# Altium schematic symbol library SPC56EL70L5.SchLib: 1 symbol
Pins are listed as number, name and electrical type; pins without a type are passive.

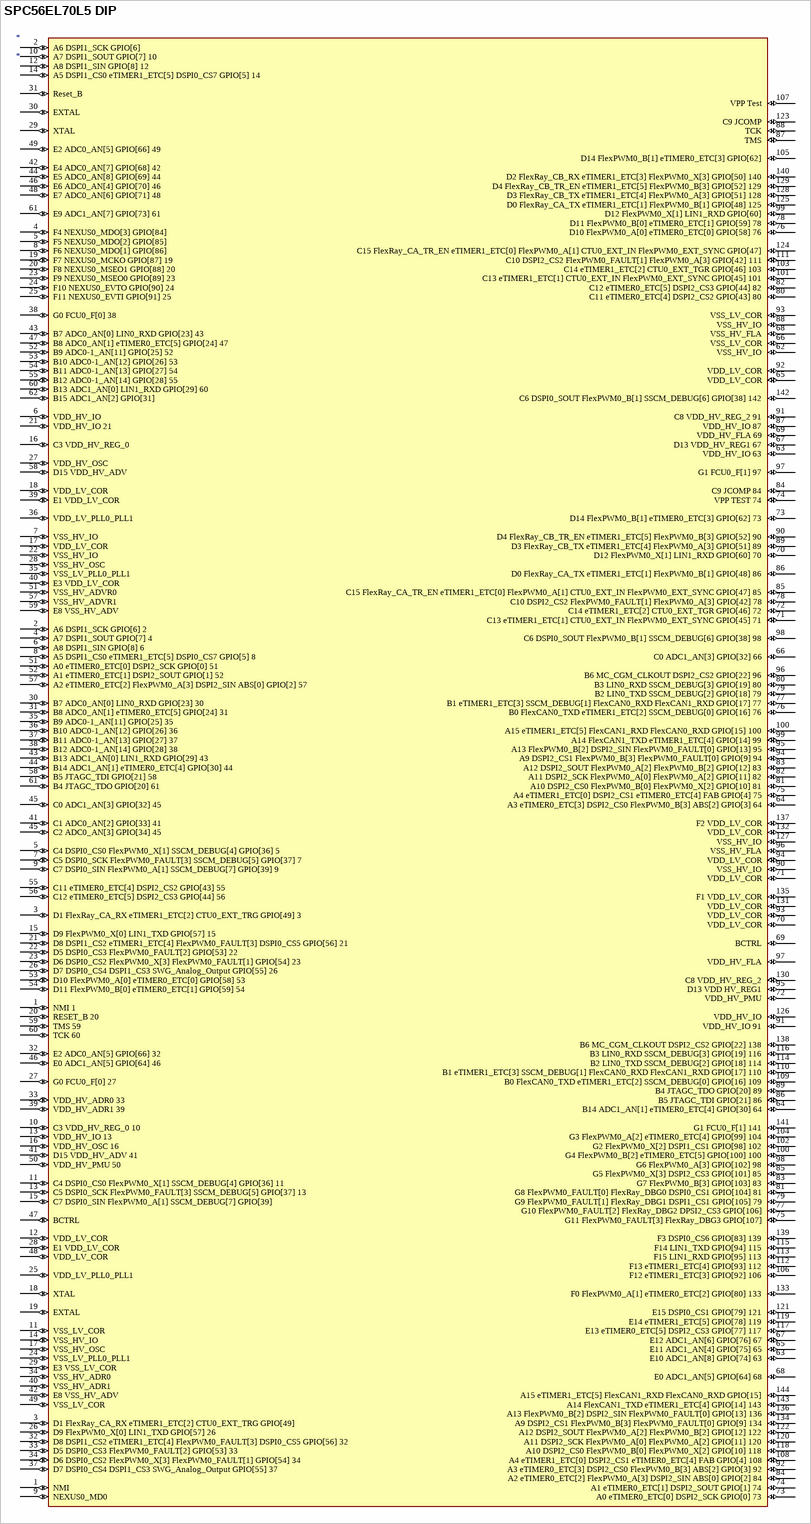
[diagram p0: symbol SPC56EL70L5 DIP]

## SPC56EL70L5 DIP
designator *
footprint CQFP50P2200X2200X160-144N (CQFP, 144-Leads, Body 22.00x22.00mm, Pitch 0.50mm, IPC Medium Density)
pins: 1 NMI (io), 1 NMI 1 (io), 2 A6 DSPI1_SCK GPIO[6] (io), 2 A6 DSPI1_SCK GPIO[6] 2 (io), 3 D1 FlexRay_CA_RX eTIMER1_ETC[2] CTU0_EXT_TRG GPIO[49] (io), 3 D1 FlexRay_CA_RX eTIMER1_ETC[2] CTU0_EXT_TRG GPIO[49] 3 (io), 4 F4 NEXUS0_MDO[3] GPIO[84] (io), 4 A7 DSPI1_SOUT GPIO[7] 4 (io), 5 F5 NEXUS0_MDO[2] GPIO[85] (io), 5 C4 DSPI0_CS0 FlexPWM0_X[1] SSCM_DEBUG[4] GPIO[36] 5 (io), 6 VDD_HV_IO (io), 6 A8 DSPI1_SIN GPIO[8] 6 (io), 7 VSS_HV_IO (io), 7 C5 DSPI0_SCK FlexPWM0_FAULT[3] SSCM_DEBUG[5] GPIO[37] 7 (io), 8 F6 NEXUS0_MDO[1] GPIO[86] (io), 8 A5 DSPI1_CS0 eTIMER1_ETC[5] DSPI0_CS7 GPIO[5] 8 (io), 9 NEXUS0_MD0 (io), 9 C7 DSPI0_SIN FlexPWM0_A[1] SSCM_DEBUG[7] GPIO[39] 9 (io), 10 A7 DSPI1_SOUT GPIO[7] 10 (io), 10 C3 VDD_HV_REG_0 10 (io), 11 C4 DSPI0_CS0 FlexPWM0_X[1] SSCM_DEBUG[4] GPIO[36] 11 (io), 11 VSS_LV_COR (io), 12 A8 DSPI1_SIN GPIO[8] 12 (io), 12 VDD_LV_COR (io), 13 C5 DSPI0_SCK FlexPWM0_FAULT[3] SSCM_DEBUG[5] GPIO[37] 13 (io), 13 VDD_HV_IO 13 (io), 14 A5 DSPI1_CS0 eTIMER1_ETC[5] DSPI0_CS7 GPIO[5] 14 (io), 14 VSS_HV_IO (io), 15 C7 DSPI0_SIN FlexPWM0_A[1] SSCM_DEBUG[7] GPIO[39] (io), 15 D9 FlexPWM0_X[0] LIN1_TXD GPIO[57] 15 (io), 16 C3 VDD_HV_REG_0 (io), 16 VDD_HV_OSC 16 (io), 17 VDD_LV_COR (io), 17 VSS_HV_OSC (io), 18 VDD_LV_COR (io), 18 XTAL (io), 19 F7 NEXUS0_MCKO GPIO[87] 19 (io), 19 EXTAL (io), 20 F8 NEXUS0_MSEO1 GPIO[88] 20 (io), 20 RESET_B 20 (io), 21 VDD_HV_IO 21 (io), 21 D8 DSPI1_CS2 eTIMER1_ETC[4] FlexPWM0_FAULT[3] DSPI0_CS5 GPIO[56] 21 (io), 22 VSS_HV_IO (io), 22 D5 DSPI0_CS3 FlexPWM0_FAULT[2] GPIO[53] 22 (io), 23 F9 NEXUS0_MSEO0 GPIO[89] 23 (io), 23 D6 DSPI0_CS2 FlexPWM0_X[3] FlexPWM0_FAULT[1] GPIO[54] 23 (io), 24 F10 NEXUS0_EVTO GPIO[90] 24 (io), 24 VSS_LV_PLL0_PLL1 (io), 25 F11 NEXUS0_EVTI GPIO[91] 25 (io), 25 VDD_LV_PLL0_PLL1 (io), 26 D9 FlexPWM0_X[0] LIN1_TXD GPIO[57] 26 (io), 26 D7 DSPI0_CS4 DSPI1_CS3 SWG_Analog_Output GPIO[55] 26 (io), 27 VDD_HV_OSC (io), 27 G0 FCU0_F[0] 27 (io), 28 VSS_HV_OSC (io), 28 E1 VDD_LV_COR (io), 29 XTAL (io), 29 E3 VSS_LV_COR (io), 30 EXTAL (io), 30 B7 ADC0_AN[0] LIN0_RXD GPIO[23] 30 (io), 31 Reset_B (io), 31 B8 ADC0_AN[1] eTIMER0_ETC[5] GPIO[24] 31 (io), 32 D8 DSPI1_CS2 eTIMER1_ETC[4] FlexPWM0_FAULT[3] DSPI0_CS5 GPIO[56] 32 (io), 32 E2 ADC0_AN[5] GPIO[66] 32 (io), 33 D5 DSPI0_CS3 FlexPWM0_FAULT[2] GPIO[53] 33 (io), 33 VDD_HV_ADR0 33 (io), 34 D6 DSPI0_CS2 FlexPWM0_X[3] FlexPWM0_FAULT[1] GPIO[54] 34 (io), 34 VSS_HV_ADR0 (io), 35 VSS_LV_PLL0_PLL1 (io), 35 B9 ADC0-1_AN[11] GPIO[25] 35 (io), 36 VDD_LV_PLL0_PLL1 (io), 36 B10 ADC0-1_AN[12] GPIO[26] 36 (io), 37 D7 DSPI0_CS4 DSPI1_CS3 SWG_Analog_Output GPIO[55] 37 (io), 37 B11 ADC0-1_AN[13] GPIO[27] 37 (io), 38 G0 FCU0_F[0] 38 (io), 38 B12 ADC0-1_AN[14] GPIO[28] 38 (io), 39 E1 VDD_LV_COR (io), 39 VDD_HV_ADR1 39 (io), 40 E3 VDD_LV_COR (io), 40 VSS_HV_ADR1 (io), 41 C1 ADC0_AN[2] GPIO[33] 41 (io), 41 D15 VDD_HV_ADV 41 (io), 42 E4 ADC0_AN[7] GPIO[68] 42 (io), 42 E8 VSS_HV_ADV (io), 43 B7 ADC0_AN[0] LIN0_RXD GPIO[23] 43 (io), 43 B13 ADC1_AN[0] LIN1_RXD GPIO[29] 43 (io), 44 E5 ADC0_AN[8] GPIO[69] 44 (io), 44 B14 ADC1_AN[1] eTIMER0_ETC[4] GPIO[30] 44 (io), 45 C2 ADC0_AN[3] GPIO[34] 45 (io), 45 C0 ADC1_AN[3] GPIO[32] 45 (io), 46 E6 ADC0_AN[4] GPIO[70] 46 (io), 46 E0 ADC1_AN[5] GPIO[64] 46 (io), 47 B8 ADC0_AN[1] eTIMER0_ETC[5] GPIO[24] 47 (io), 47 BCTRL (io), 48 E7 ADC0_AN[6] GPIO[71] 48 (io), 48 VDD_LV_COR (io), 49 E2 ADC0_AN[5] GPIO[66] 49 (io), 49 VSS_LV_COR (io), 50 VDD_HV_PMU 50 (io), 51 VSS_HV_ADVR0 (io), 51 A0 eTIMER0_ETC[0] DSPI2_SCK GPIO[0] 51 (io), 52 B9 ADC0-1_AN[11] GPIO[25] 52 (io), 52 A1 eTIMER0_ETC[1] DSPI2_SOUT GPIO[1] 52 (io), 53 B10 ADC0-1_AN[12] GPIO[26] 53 (io), 53 D10 FlexPWM0_A[0] eTIMER0_ETC[0] GPIO[58] 53 (io), 54 B11 ADC0-1_AN[13] GPIO[27] 54 (io), 54 D11 FlexPWM0_B[0] eTIMER0_ETC[1] GPIO[59] 54 (io), 55 B12 ADC0-1_AN[14] GPIO[28] 55 (io), 55 C11 eTIMER0_ETC[4] DSPI2_CS2 GPIO[43] 55 (io), 56 C12 eTIMER0_ETC[5] DSPI2_CS3 GPIO[44] 56 (io), 57 VSS_HV_ADVR1 (io), 57 A2 eTIMER0_ETC[2] FlexPWM0_A[3] DSPI2_SIN ABS[0] GPIO[2] 57 (io), 58 D15 VDD_HV_ADV (io), 58 B5 JTAGC_TDI GPIO[21] 58 (io), 59 E8 VSS_HV_ADV (io), 59 TMS 59 (io), 60 B13 ADC1_AN[0] LIN1_RXD GPIO[29] 60 (io), 60 TCK 60 (io), 61 E9 ADC1_AN[7] GPIO[73] 61 (io), 61 B4 JTAGC_TDO GPIO[20] 61 (io), 62 B15 ADC1_AN[2] GPIO[31] (io), 62 VSS_HV_IO (io), 63 E10 ADC1_AN[8] GPIO[74] 63 (io), 63 VDD_HV_IO 63 (io), 64 B14 ADC1_AN[1] eTIMER0_ETC[4] GPIO[30] 64 (io), 64 A3 eTIMER0_ETC[3] DSPI2_CS0 FlexPWM0_B[3] ABS[2] GPIO[3] 64 (io), 65 E11 ADC1_AN[4] GPIO[75] 65 (io), 65 VDD_LV_COR (io), 66 C0 ADC1_AN[3] GPIO[32] 66 (io), 66 VSS_LV_COR (io), 67 E12 ADC1_AN[6] GPIO[76] 67 (io), 67 D13 VDD_HV_REG1 67 (io), 68 E0 ADC1_AN[5] GPIO[64] 68 (io), 68 VSS_HV_FLA (io), 69 BCTRL (io), 69 VDD_HV_FLA 69 (io), 70 VDD_LV_COR (io), 70 D12 FlexPWM0_X[1] LIN1_RXD GPIO[60] 70 (io), 71 VDD_LV_COR (io), 71 C13 eTIMER1_ETC[1] CTU0_EXT_IN FlexPWM0_EXT_SYNC GPIO[45] 71 (io), 72 VDD_HV_PMU (io), 72 C14 eTIMER1_ETC[2] CTU0_EXT_TGR GPIO[46] 72 (io), 73 A0 eTIMER0_ETC[0] DSPI2_SCK GPIO[0] 73 (io), 73 D14 FlexPWM0_B[1] eTIMER0_ETC[3] GPIO[62] 73 (io), 74 A1 eTIMER0_ETC[1] DSPI2_SOUT GPIO[1] 74 (io), 74 VPP TEST 74 (io), 75 G11 FlexPWM0_FAULT[3] FlexRay_DBG3 GPIO[107] (io), 75 A4 eTIMER1_ETC[0] DSPI2_CS1 eTIMER0_ETC[4] FAB GPIO[4] 75 (io), 76 D10 FlexPWM0_A[0] eTIMER0_ETC[0] GPIO[58] 76 (io), 76 B0 FlexCAN0_TXD eTIMER1_ETC[2] SSCM_DEBUG[0] GPIO[16] 76 (io), 77 G10 FlexPWM0_FAULT[2] FlexRay_DBG2 DPSI2_CS3 GPIO[106] (io), 77 B1 eTIMER1_ETC[3] SSCM_DEBUG[1] FlexCAN0_RXD FlexCAN1_RXD GPIO[17] 77 (io), 78 D11 FlexPWM0_B[0] eTIMER0_ETC[1] GPIO[59] 78 (io), 78 C10 DSPI2_CS2 FlexPWM0_FAULT[1] FlexPWM0_A[3] GPIO[42] 78 (io), 79 G9 FlexPWM0_FAULT[1] FlexRay_DBG1 DSPI1_CS1 GPIO[105] 79 (io), 79 B2 LIN0_TXD SSCM_DEBUG[2] GPIO[18] 79 (io), 80 C11 eTIMER0_ETC[4] DSPI2_CS2 GPIO[43] 80 (io), 80 B3 LIN0_RXD SSCM_DEBUG[3] GPIO[19] 80 (io), 81 G8 FlexPWM0_FAULT[0] FlexRay_DBG0 DSPI0_CS1 GPIO[104] 81 (io), 81 A10 DSPI2_CS0 FlexPWM0_B[0] FlexPWM0_X[2] GPIO[10] 81 (io), 82 C12 eTIMER0_ETC[5] DSPI2_CS3 GPIO[44] 82 (io), 82 A11 DSPI2_SCK FlexPWM0_A[0] FlexPWM0_A[2] GPIO[11] 82 (io), 83 G7 FlexPWM0_B[3] GPIO[103] 83 (io), 83 A12 DSPI2_SOUT FlexPWM0_A[2] FlexPWM0_B[2] GPIO[12] 83 (io), 84 A2 eTIMER0_ETC[2] FlexPWM0_A[3] DSPI2_SIN ABS[0] GPIO[2] 84 (io), 84 C9 JCOMP 84 (io), 85 G5 FlexPWM0_X[3] DSPI2_CS3 GPIO[101] 85 (io), 85 C15 FlexRay_CA_TR_EN eTIMER1_ETC[0] FlexPWM0_A[1] CTU0_EXT_IN FlexPWM0_EXT_SYNC GPIO[47] 85 (io), 86 B5 JTAGC_TDI GPIO[21] 86 (io), 86 D0 FlexRay_CA_TX eTIMER1_ETC[1] FlexPWM0_B[1] GPIO[48] 86 (io), 87 TMS (io), 87 VDD_HV_IO 87 (io), 88 TCK (io), 88 VSS_HV_IO (io), 89 B4 JTAGC_TDO GPIO[20] 89 (io), 89 D3 FlexRay_CB_TX eTIMER1_ETC[4] FlexPWM0_A[3] GPIO[51] 89 (io), 90 VSS_HV_IO (io), 90 D4 FlexRay_CB_TR_EN eTIMER1_ETC[5] FlexPWM0_B[3] GPIO[52] 90 (io), 91 VDD_HV_IO 91 (io), 91 C8 VDD_HV_REG_2 91 (io), 92 A3 eTIMER0_ETC[3] DSPI2_CS0 FlexPWM0_B[3] ABS[2] GPIO[3] 92 (io), 92 VDD_LV_COR (io), 93 VDD_LV_COR (io), 93 VSS_LV_COR (io), 94 VDD_LV_COR (io), 94 A9 DSPI2_CS1 FlexPWM0_B[3] FlexPWM0_FAULT[0] GPIO[9] 94 (io), 95 D13 VDD HV_REG1 (io), 95 A13 FlexPWM0_B[2] DSPI2_SIN FlexPWM0_FAULT[0] GPIO[13] 95 (io), 96 VSS_HV_FLA (io), 96 B6 MC_CGM_CLKOUT DSPI2_CS2 GPIO[22] 96 (io), 97 VDD_HV_FLA (io), 97 G1 FCU0_F[1] 97 (io), 98 G6 FlexPWM0_A[3] GPIO[102] 98 (io), 98 C6 DSPI0_SOUT FlexPWM0_B[1] SSCM_DEBUG[6] GPIO[38] 98 (io), 99 D12 FlexPWM0_X[1] LIN1_RXD GPIO[60] (io), 99 A14 FlexCAN1_TXD eTIMER1_ETC[4] GPIO[14] 99 (io), 100 G4 FlexPWM0_B[2] eTIMER0_ETC[5] GPIO[100] 100 (io), 100 A15 eTIMER1_ETC[5] FlexCAN1_RXD FlexCAN0_RXD GPIO[15] 100 (io), 101 C13 eTIMER1_ETC[1] CTU0_EXT_IN FlexPWM0_EXT_SYNC GPIO[45] 101 (io), 102 G2 FlexPWM0_X[2] DSPI1_CS1 GPIO[98] 102 (io), 103 C14 eTIMER1_ETC[2] CTU0_EXT_TGR GPIO[46] 103 (io), 104 G3 FlexPWM0_A[2] eTIMER0_ETC[4] GPIO[99] 104 (io), 105 D14 FlexPWM0_B[1] eTIMER0_ETC[3] GPIO[62] (io), 106 F12 eTIMER1_ETC[3] GPIO[92] 106 (io), 107 VPP Test (io), 108 A4 eTIMER1_ETC[0] DSPI2_CS1 eTIMER0_ETC[4] FAB GPIO[4] 108 (io), 109 B0 FlexCAN0_TXD eTIMER1_ETC[2] SSCM_DEBUG[0] GPIO[16] 109 (io), 110 B1 eTIMER1_ETC[3] SSCM_DEBUG[1] FlexCAN0_RXD FlexCAN1_RXD GPIO[17] 110 (io), 111 C10 DSPI2_CS2 FlexPWM0_FAULT[1] FlexPWM0_A[3] GPIO[42] 111 (io), 112 F13 eTIMER1_ETC[4] GPIO[93] 112 (io), 113 F15 LIN1_RXD GPIO[95] 113 (io), 114 B2 LIN0_TXD SSCM_DEBUG[2] GPIO[18] 114 (io), 115 F14 LIN1_TXD GPIO[94] 115 (io), 116 B3 LIN0_RXD SSCM_DEBUG[3] GPIO[19] 116 (io), 117 E13 eTIMER0_ETC[5] DSPI2_CS3 GPIO[77] 117 (io), 118 A10 DSPI2_CS0 FlexPWM0_B[0] FlexPWM0_X[2] GPIO[10] 118 (io), 119 E14 eTIMER1_ETC[5] GPIO[78] 119 (io), 120 A11 DSPI2_SCK FlexPWM0_A[0] FlexPWM0_A[2] GPIO[11] 120 (io), 121 E15 DSPI0_CS1 GPIO[79] 121 (io), 122 A12 DSPI2_SOUT FlexPWM0_A[2] FlexPWM0_B[2] GPIO[12] 122 (io), 123 C9 JCOMP (io), 124 C15 FlexRay_CA_TR_EN eTIMER1_ETC[0] FlexPWM0_A[1] CTU0_EXT_IN FlexPWM0_EXT_SYNC GPIO[47] (io), 125 D0 FlexRay_CA_TX eTIMER1_ETC[1] FlexPWM0_B[1] GPIO[48] 125 (io), 126 VDD_HV_IO (io), 127 VSS_HV_IO (io), 128 D3 FlexRay_CB_TX eTIMER1_ETC[4] FlexPWM0_A[3] GPIO[51] 128 (io), 129 D4 FlexRay_CB_TR_EN eTIMER1_ETC[5] FlexPWM0_B[3] GPIO[52] 129 (io), 130 C8 VDD_HV_REG_2 (io), 131 VDD_LV_COR (io), 132 VDD_LV_COR (io), 133 F0 FlexPWM0_A[1] eTIMER0_ETC[2] GPIO[80] 133 (io), 134 A9 DSPI2_CS1 FlexPWM0_B[3] FlexPWM0_FAULT[0] GPIO[9] 134 (io), 135 F1 VDD_LV_COR (io), 136 A13 FlexPWM0_B[2] DSPI2_SIN FlexPWM0_FAULT[0] GPIO[13] 136 (io), 137 F2 VDD_LV_COR (io), 138 B6 MC_CGM_CLKOUT DSPI2_CS2 GPIO[22] 138 (io), 139 F3 DSPI0_CS6 GPIO[83] 139 (io), 140 D2 FlexRay_CB_RX eTIMER1_ETC[3] FlexPWM0_X[3] GPIO[50] 140 (io), 141 G1 FCU0_F[1] 141 (io), 142 C6 DSPI0_SOUT FlexPWM0_B[1] SSCM_DEBUG[6] GPIO[38] 142 (io), 143 A14 FlexCAN1_TXD eTIMER1_ETC[4] GPIO[14] 143 (io), 144 A15 eTIMER1_ETC[5] FlexCAN1_RXD FlexCAN0_RXD GPIO[15] (io)